# EAGLE library part MAX5035D (library Eagle_CAD_parts)
IC REG BUCK 5V 1A 8SOIC
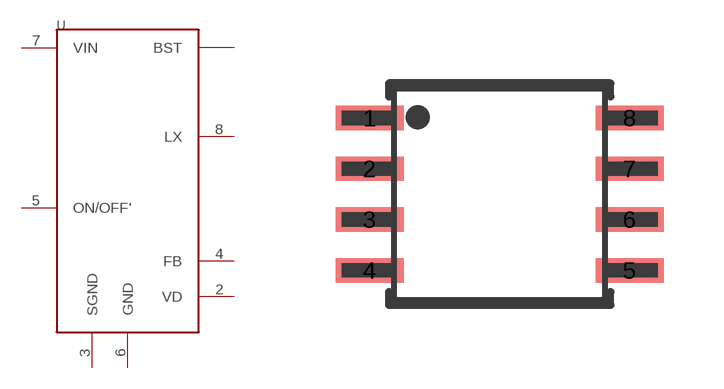
[diagram p15: symbol with the pads of 8-SOIC; footprint 8-SOIC]

Designator prefix -

## MAX5035D_8-SOIC (DIGIKEY_PART_NUMBER: MAX5035BUSA+-ND; MANUFACTURER_PART_NUMBER: MAX5035BUSA+)  [8-SOIC]
1  BST
2  VD
3  SGND
4  FB
5  ON/OFF'
6  GND
7  VIN
8  LX

## Footprint 8-SOIC (pad centres in mm)
smd 1.702 x 0.61: 1 -3.251,1.905; 2 -3.251,0.635; 3 -3.251,-0.635; 4 -3.251,-1.905; 5 3.251,-1.905; 6 3.251,-0.635; 7 3.251,0.635; 8 3.251,1.905